# EAGLE library part SN74LVC2G53 (library 1)
Switch SPDT Analog Switch, 2:1 Analog Multiplexer/Demultiplexer Datasheet <http://www.ti.com/lit/ds/symlink/sn74lvc2g53.pdf>
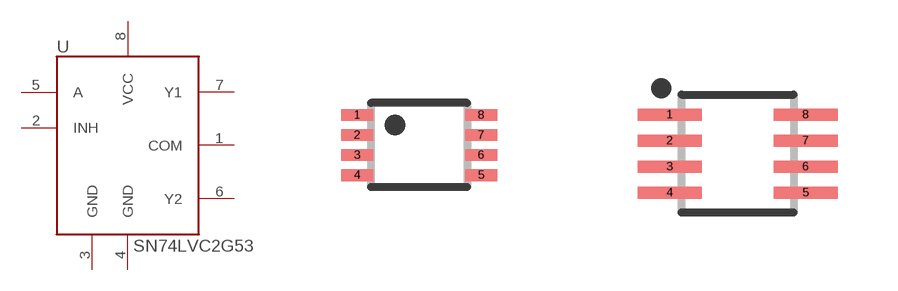
[diagram p14: symbol with the pads of VSSOP-8; footprints VSSOP-8, SSOP-8]

Designator prefix U

## SN74LVC2G53DCU  [VSSOP-8]
1  COM
2  INH
3  GND
4  GND
5  A
6  Y2
7  Y1
8  VCC

## SN74LVC2G53DCT  [SSOP-8]
Pads as for VSSOP-8

## Footprint VSSOP-8 (pad centres in mm)
smd 0.8 x 0.3: 1 -1.55,0.75; 2 -1.55,0.25; 3 -1.55,-0.25; 4 -1.55,-0.75; 5 1.55,-0.75; 6 1.55,-0.25; 7 1.55,0.25; 8 1.55,0.75

## Footprint SSOP-8 (pad centres in mm)
0.65mm pitch, SSOP-8 TI DCT Outline <http://www.ti.com/litv/pdf/mpds049b>
smd 1.6 x 0.3: 1 -1.7,0.975; 2 -1.7,0.325; 3 -1.7,-0.325; 4 -1.7,-0.975; 5 1.7,-0.975; 6 1.7,-0.325; 7 1.7,0.325; 8 1.7,0.975